# Altium footprint library moduls.PcbLib: 7 footprints
Each footprint in its own frame and in the unit in brackets; x right, y up, seen from the top. Pads: shape width x height; smd on the part's side, far side on the other; paste and mask are expansions set on the pad; w line width, h text height; cw(c..) or ccw(c..) is an arc to the next point about the centre after c.
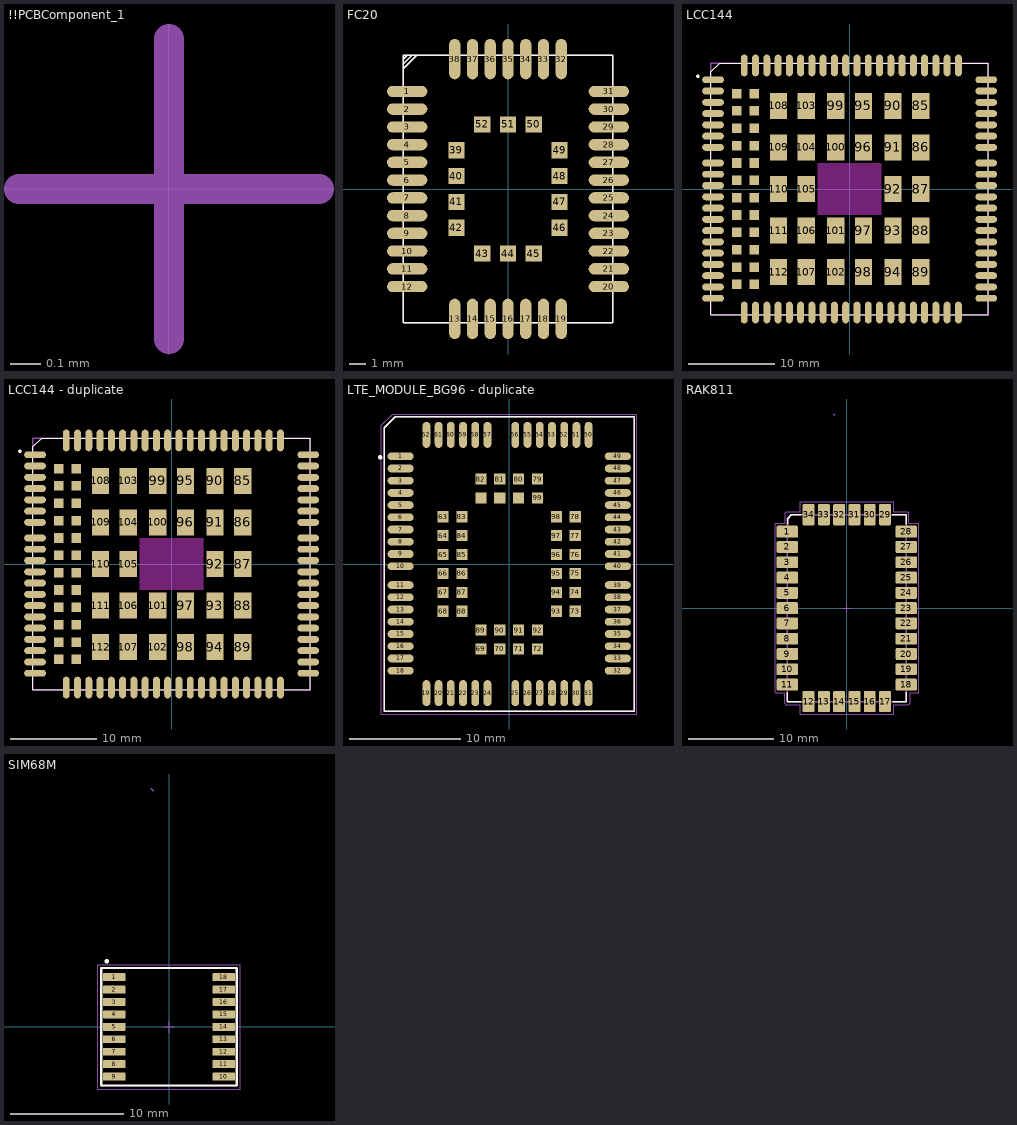
[diagram p0: the footprints below, top view; thin cyan lines are the x and y axes]

## !!PCBComponent_1 [mm]
M3_comm_top:
  text ".comment" at -0.9,-0.3 h1
M5_asm_top:
  text ".Designator" at -1,1.3 h1
M7_courtyard_top:
  lines w0.1: -0.5,0 0.5,0 ; 0,-0.5 0,0.5

## FC20 [mm]
pads (52):
  oval 2.5x0.7 smd: 1(-6.25,6.05) 2(-6.25,4.95) 3(-6.25,3.85) 4(-6.25,2.75) 5(-6.25,1.65) 6(-6.25,0.55) 7(-6.25,-0.55) 8(-6.25,-1.65) 9(-6.25,-2.75) 10(-6.25,-3.85) 11(-6.25,-4.95) 12(-6.25,-6.05) 20(6.25,-6.05) 21(6.25,-4.95) 22(6.25,-3.85) 23(6.25,-2.75) 24(6.25,-1.65) 25(6.25,-0.55) 26(6.25,0.55) 27(6.25,1.65) 28(6.25,2.75) 29(6.25,3.85) 30(6.25,4.95) 31(6.25,6.05)
  oval 0.7x2.5 smd: 13(-3.3,-8.05) 14(-2.2,-8.05) 15(-1.1,-8.05) 16(0,-8.05) 17(1.1,-8.05) 18(2.2,-8.05) 19(3.3,-8.05) 32(3.3,8.05) 33(2.2,8.05) 34(1.1,8.05) 35(0,8.05) 36(-1.1,8.05) 37(-2.2,8.05) 38(-3.3,8.05)
  rect 1x1 smd: 39(-3.2,2.4) 40(-3.2,0.8) 41(-3.2,-0.8) 42(-3.2,-2.4) 43(-1.6,-4) 44(0,-4) 45(1.6,-4) 46(3.2,-2.4) 47(3.2,-0.8) 48(3.2,0.8) 49(3.2,2.4) 50(1.6,4) 51(0,4) 52(-1.6,4)
Top Overlay:
  lines w0.1: -6.5,-8.3 6.5,-8.3 6.5,8.3 -6.5,8.3 -6.5,-8.3
  lines w0.102: -6.5,7.45 -5.65,8.3 ; -6.5,7.75 -5.95,8.3 ; -6.5,8.05 -6.25,8.3
M1_3D_TOP:
  lines w0.1: -6.5,-8.3 -6.5,8.3 6.5,8.3 6.5,-8.3 -6.5,-8.3
3D body: height 0.6, standoff 0, extent -6.5,-8.3 6.5,8.3
3D body: height 2.1, standoff 0.6, extent -5.5,-7.25 5.5,7.25

## LCC144 [mm] "EC21-E"
height 2.4
pads (132):
  oval 2.5x0.8 smd: 1(-15.75,12.6) 2(-15.75,11.3) 3(-15.75,10) 4(-15.75,8.7) 5(-15.75,7.4) 6(-15.75,6.1) 7(-15.75,4.8) 8(-15.75,0.4) 9(-15.75,-0.9) 10(-15.75,-2.2) 11(-15.75,-3.5) 12(-15.75,-4.8) 13(-15.75,-6.1) 14(-15.75,-7.4) 15(-15.75,-8.7) 16(-15.75,-10) 17(-15.75,-11.3) 18(-15.75,-12.6) 37(15.75,-12.6) 38(15.75,-11.3) 39(15.75,-10) 40(15.75,-8.7) 41(15.75,-7.4) 42(15.75,-6.1) 43(15.75,-4.8) 44(15.75,-3.5) 45(15.75,-2.2) 46(15.75,-0.9) 47(15.75,0.4) 48(15.75,4.8) 49(15.75,6.1) 50(15.75,7.4) 51(15.75,8.7) 52(15.75,10) 53(15.75,11.3) 54(15.75,12.6) 141(-15.75,3) 142(-15.75,1.7) 143(15.75,1.7) 144(15.75,3)
  oval 0.8x2.5 smd: 19(-9.55,-14.25) 20(-8.25,-14.25) 21(-6.95,-14.25) 22(-5.65,-14.25) 23(-4.35,-14.25) 24(-3.05,-14.25) 25(-1.75,-14.25) 26(-0.45,-14.25) 27(0.85,-14.25) 28(2.15,-14.25) 29(3.45,-14.25) 30(4.75,-14.25) 31(6.05,-14.25) 32(7.35,-14.25) 33(8.65,-14.25) 34(9.95,-14.25) 35(11.25,-14.25) 36(12.55,-14.25) 55(12.55,14.25) 56(11.25,14.25) 57(9.95,14.25) 58(8.65,14.25) 59(7.35,14.25) 60(6.05,14.25) 61(4.75,14.25) 62(3.45,14.25) 63(2.15,14.25) 64(0.85,14.25) 65(-0.45,14.25) 66(-1.75,14.25) 67(-3.05,14.25) 68(-4.35,14.25) 69(-5.65,14.25) 70(-6.95,14.25) 71(-8.25,14.25) 72(-9.55,14.25) 73(-10.85,14.25) 74(-12.15,14.25) 115(-10.85,-14.25) 116(-12.15,-14.25)
  rect 2x3 smd: 85(8.2,9.6) 86(8.2,4.8) 87(8.2,0) 88(8.2,-4.8) 89(8.2,-9.6) 90(5,9.6) 91(5,4.8) 92(5,0) 93(5,-4.8) 94(5,-9.6) 95(1.6,9.6) 96(1.6,4.8) 97(1.6,-4.8) 98(1.6,-9.6) 99(-1.6,9.6) 100(-1.6,4.8) 101(-1.6,-4.8) 102(-1.6,-9.6) 103(-5,9.6) 104(-5,4.8) 105(-5,0) 106(-5,-4.8) 107(-5,-9.6) 108(-8.2,9.6) 109(-8.2,4.8) 110(-8.2,0) 111(-8.2,-4.8) 112(-8.2,-9.6)
  rect 1.1x1.1 smd: 117(-11,11) 118(-11,9) 119(-11,7) 120(-11,5) 121(-11,3) 122(-11,1) 123(-11,-1) 124(-11,-3) 125(-11,-5) 126(-11,-7) 127(-11,-9) 128(-11,-11) 129(-13,11) 130(-13,9) 131(-13,7) 132(-13,5) 133(-13,3) 134(-13,1) 135(-13,-1) 136(-13,-3) 137(-13,-5) 138(-13,-7) 139(-13,-9) 140(-13,-11)
Top Layer keep-out:
  rectangle: -3.7,-3 3.7,3
Top Overlay:
  circle w0.2: c-17.5,13 r0.1
  lines w0.127: -16,-14.5 16,-14.5 16,14.5 -15,14.5 -16,13.5 -16,-14.5
M1_3D_TOP:
  lines w0.15: -16,-14.5 16,-14.5 16,14.5 -16,14.5 -16,-14.5
3D body: height 0.85, standoff 0, extent 12.35,14.4 12.75,14.6
3D body: height 0.85, standoff 0, extent 11.05,14.4 11.45,14.6
3D body: height 0.85, standoff 0, extent 8.45,14.4 8.85,14.6
3D body: height 0.85, standoff 0, extent 9.75,14.4 10.15,14.6
3D body: height 0.85, standoff 0, extent 4.55,14.4 4.95,14.6
3D body: height 0.85, standoff 0, extent 3.25,14.4 3.65,14.6
3D body: height 0.85, standoff 0, extent 5.85,14.4 6.25,14.6
3D body: height 0.85, standoff 0, extent 7.15,14.4 7.55,14.6
3D body: height 0.85, standoff 0, extent -0.65,14.4 -0.25,14.6
3D body: height 0.85, standoff 0, extent -1.95,14.4 -1.55,14.6
3D body: height 0.85, standoff 0, extent 0.65,14.4 1.05,14.6
3D body: height 0.85, standoff 0, extent 1.95,14.4 2.35,14.6
3D body: height 0.85, standoff 0, extent -5.85,14.4 -5.45,14.6
3D body: height 0.85, standoff 0, extent -7.15,14.4 -6.75,14.6
3D body: height 0.85, standoff 0, extent -4.55,14.4 -4.15,14.6
3D body: height 0.85, standoff 0, extent -3.25,14.4 -2.85,14.6
3D body: height 0.85, standoff 0, extent -11.05,14.4 -10.65,14.6
3D body: height 0.85, standoff 0, extent -12.35,14.4 -11.95,14.6
3D body: height 0.85, standoff 0, extent -9.75,14.4 -9.35,14.6
3D body: height 0.85, standoff 0, extent -8.45,14.4 -8.05,14.6
3D body: height 0.85, standoff 0, extent -8.45,-14.6 -8.05,-14.4
3D body: height 0.85, standoff 0, extent -9.75,-14.6 -9.35,-14.4
3D body: height 0.85, standoff 0, extent -12.35,-14.6 -11.95,-14.4
3D body: height 0.85, standoff 0, extent -11.05,-14.6 -10.65,-14.4
3D body: height 0.85, standoff 0, extent -3.25,-14.6 -2.85,-14.4
3D body: height 0.85, standoff 0, extent -4.55,-14.6 -4.15,-14.4
3D body: height 0.85, standoff 0, extent -7.15,-14.6 -6.75,-14.4
3D body: height 0.85, standoff 0, extent -5.85,-14.6 -5.45,-14.4
3D body: height 0.85, standoff 0, extent 1.95,-14.6 2.35,-14.4
3D body: height 0.85, standoff 0, extent 0.65,-14.6 1.05,-14.4
3D body: height 0.85, standoff 0, extent -1.95,-14.6 -1.55,-14.4
3D body: height 0.85, standoff 0, extent -0.65,-14.6 -0.25,-14.4
3D body: height 0.85, standoff 0, extent 7.15,-14.6 7.55,-14.4
3D body: height 0.85, standoff 0, extent 5.85,-14.6 6.25,-14.4
3D body: height 0.85, standoff 0, extent 3.25,-14.6 3.65,-14.4
3D body: height 0.85, standoff 0, extent 4.55,-14.6 4.95,-14.4
3D body: height 0.85, standoff 0, extent 9.75,-14.6 10.15,-14.4
3D body: height 0.85, standoff 0, extent 8.45,-14.6 8.85,-14.4
3D body: height 0.85, standoff 0, extent 11.05,-14.6 11.45,-14.4
3D body: height 0.85, standoff 0, extent 12.35,-14.6 12.75,-14.4
3D body: height 0.85, standoff 0, extent -16.1,-3.7 -15.9,-3.3
3D body: height 0.85, standoff 0, extent -16.1,-5 -15.9,-4.6
3D body: height 0.85, standoff 0, extent -16.1,-7.6 -15.9,-7.2
3D body: height 0.85, standoff 0, extent -16.1,-6.3 -15.9,-5.9
3D body: height 0.85, standoff 0, extent -16.1,-10.2 -15.9,-9.8
3D body: height 0.85, standoff 0, extent -16.1,-8.9 -15.9,-8.5
3D body: height 0.85, standoff 0, extent -16.1,-12.8 -15.9,-12.4
3D body: height 0.85, standoff 0, extent -16.1,-11.5 -15.9,-11.1
3D body: height 0.85, standoff 0, extent -16.1,-2.4 -15.9,-2
3D body: height 0.85, standoff 0, extent -16.1,-1.1 -15.9,-0.7
3D body: height 0.85, standoff 0, extent -16.1,0.2 -15.9,0.6
3D body: height 0.85, standoff 0, extent -16.1,1.5 -15.9,1.9
3D body: height 0.85, standoff 0, extent -16.1,4.6 -15.9,5
3D body: height 0.85, standoff 0, extent -16.1,5.9 -15.9,6.3
3D body: height 0.85, standoff 0, extent -16.1,7.2 -15.9,7.6
3D body: height 0.85, standoff 0, extent -16.1,8.5 -15.9,8.9
3D body: height 0.85, standoff 0, extent -16.1,9.8 -15.9,10.2
3D body: height 0.85, standoff 0, extent -16.1,11.1 -15.9,11.5
3D body: height 0.85, standoff 0, extent -16.1,12.4 -15.9,12.8
3D body: height 0.85, standoff 0, extent -16.1,2.8 -15.9,3.2
3D body: height 0.85, standoff 0, extent 15.9,2.8 16.1,3.2
3D body: height 0.85, standoff 0, extent 15.9,12.4 16.1,12.8
3D body: height 0.85, standoff 0, extent 15.9,11.1 16.1,11.5
3D body: height 0.85, standoff 0, extent 15.9,9.8 16.1,10.2
3D body: height 0.85, standoff 0, extent 15.9,8.5 16.1,8.9
3D body: height 0.85, standoff 0, extent 15.9,7.2 16.1,7.6
3D body: height 0.85, standoff 0, extent 15.9,5.9 16.1,6.3
3D body: height 0.85, standoff 0, extent 15.9,4.6 16.1,5
3D body: height 0.85, standoff 0, extent 15.9,1.5 16.1,1.9
3D body: height 0.85, standoff 0, extent 15.9,0.2 16.1,0.6
3D body: height 0.85, standoff 0, extent 15.9,-1.1 16.1,-0.7
3D body: height 0.85, standoff 0, extent 15.9,-2.4 16.1,-2
3D body: height 0.85, standoff 0, extent 15.9,-11.5 16.1,-11.1
3D body: height 0.85, standoff 0, extent 15.9,-12.8 16.1,-12.4
3D body: height 0.85, standoff 0, extent 15.9,-8.9 16.1,-8.5
3D body: height 0.85, standoff 0, extent 15.9,-10.2 16.1,-9.8
3D body: height 0.85, standoff 0, extent 15.9,-6.3 16.1,-5.9
3D body: height 0.85, standoff 0, extent 15.9,-7.6 16.1,-7.2
3D body: height 0.85, standoff 0, extent 15.9,-5 16.1,-4.6
3D body: height 0.85, standoff 0, extent 15.9,-3.7 16.1,-3.3
3D body: height 2.4, standoff 0.8, extent -15.5,-14 15.5,14
3D body: height 0.8, standoff 0, extent -16,-14.5 16,14.5
3D body: height 2.41, standoff 2.4, extent -14.996,12.501 -14,13.499

## LCC144 - duplicate [mm] "EC21-E"
height 2.4
pads (132):
  oval 2.5x0.8 smd: 1(-15.75,12.6) 2(-15.75,11.3) 3(-15.75,10) 4(-15.75,8.7) 5(-15.75,7.4) 6(-15.75,6.1) 7(-15.75,4.8) 8(-15.75,0.4) 9(-15.75,-0.9) 10(-15.75,-2.2) 11(-15.75,-3.5) 12(-15.75,-4.8) 13(-15.75,-6.1) 14(-15.75,-7.4) 15(-15.75,-8.7) 16(-15.75,-10) 17(-15.75,-11.3) 18(-15.75,-12.6) 37(15.75,-12.6) 38(15.75,-11.3) 39(15.75,-10) 40(15.75,-8.7) 41(15.75,-7.4) 42(15.75,-6.1) 43(15.75,-4.8) 44(15.75,-3.5) 45(15.75,-2.2) 46(15.75,-0.9) 47(15.75,0.4) 48(15.75,4.8) 49(15.75,6.1) 50(15.75,7.4) 51(15.75,8.7) 52(15.75,10) 53(15.75,11.3) 54(15.75,12.6) 141(-15.75,3) 142(-15.75,1.7) 143(15.75,1.7) 144(15.75,3)
  oval 0.8x2.5 smd: 19(-9.55,-14.25) 20(-8.25,-14.25) 21(-6.95,-14.25) 22(-5.65,-14.25) 23(-4.35,-14.25) 24(-3.05,-14.25) 25(-1.75,-14.25) 26(-0.45,-14.25) 27(0.85,-14.25) 28(2.15,-14.25) 29(3.45,-14.25) 30(4.75,-14.25) 31(6.05,-14.25) 32(7.35,-14.25) 33(8.65,-14.25) 34(9.95,-14.25) 35(11.25,-14.25) 36(12.55,-14.25) 55(12.55,14.25) 56(11.25,14.25) 57(9.95,14.25) 58(8.65,14.25) 59(7.35,14.25) 60(6.05,14.25) 61(4.75,14.25) 62(3.45,14.25) 63(2.15,14.25) 64(0.85,14.25) 65(-0.45,14.25) 66(-1.75,14.25) 67(-3.05,14.25) 68(-4.35,14.25) 69(-5.65,14.25) 70(-6.95,14.25) 71(-8.25,14.25) 72(-9.55,14.25) 73(-10.85,14.25) 74(-12.15,14.25) 115(-10.85,-14.25) 116(-12.15,-14.25)
  rect 2x3 smd: 85(8.2,9.6) 86(8.2,4.8) 87(8.2,0) 88(8.2,-4.8) 89(8.2,-9.6) 90(5,9.6) 91(5,4.8) 92(5,0) 93(5,-4.8) 94(5,-9.6) 95(1.6,9.6) 96(1.6,4.8) 97(1.6,-4.8) 98(1.6,-9.6) 99(-1.6,9.6) 100(-1.6,4.8) 101(-1.6,-4.8) 102(-1.6,-9.6) 103(-5,9.6) 104(-5,4.8) 105(-5,0) 106(-5,-4.8) 107(-5,-9.6) 108(-8.2,9.6) 109(-8.2,4.8) 110(-8.2,0) 111(-8.2,-4.8) 112(-8.2,-9.6)
  rect 1.1x1.1 smd: 117(-11,11) 118(-11,9) 119(-11,7) 120(-11,5) 121(-11,3) 122(-11,1) 123(-11,-1) 124(-11,-3) 125(-11,-5) 126(-11,-7) 127(-11,-9) 129(-13,11) 129(-11,-11) 130(-13,9) 131(-13,7) 132(-13,5) 133(-13,3) 134(-13,1) 135(-13,-1) 136(-13,-3) 137(-13,-5) 138(-13,-7) 139(-13,-9) 140(-13,-11)
Top Layer keep-out:
  rectangle: -3.7,-3 3.7,3
Top Overlay:
  circle w0.2: c-17.5,13 r0.1
  lines w0.127: -16,-14.5 -16,13.5 -15,14.5 16,14.5 16,-14.5 -16,-14.5
M1_3D_TOP:
  lines w0.15: -16,-14.5 -16,14.5 16,14.5 16,-14.5 -16,-14.5
3D body: height 2.41, standoff 2.4, extent -14.996,12.501 -14,13.499
3D body: height 0.8, standoff 0, extent -16,-14.5 16,14.5
3D body: height 2.4, standoff 0.8, extent -15.5,-14 15.5,14
3D body: height 0.85, standoff 0, extent 15.9,-3.7 16.1,-3.3
3D body: height 0.85, standoff 0, extent 15.9,-5 16.1,-4.6
3D body: height 0.85, standoff 0, extent 15.9,-7.6 16.1,-7.2
3D body: height 0.85, standoff 0, extent 15.9,-6.3 16.1,-5.9
3D body: height 0.85, standoff 0, extent 15.9,-10.2 16.1,-9.8
3D body: height 0.85, standoff 0, extent 15.9,-8.9 16.1,-8.5
3D body: height 0.85, standoff 0, extent 15.9,-12.8 16.1,-12.4
3D body: height 0.85, standoff 0, extent 15.9,-11.5 16.1,-11.1
3D body: height 0.85, standoff 0, extent 15.9,-2.4 16.1,-2
3D body: height 0.85, standoff 0, extent 15.9,-1.1 16.1,-0.7
3D body: height 0.85, standoff 0, extent 15.9,0.2 16.1,0.6
3D body: height 0.85, standoff 0, extent 15.9,1.5 16.1,1.9
3D body: height 0.85, standoff 0, extent 15.9,4.6 16.1,5
3D body: height 0.85, standoff 0, extent 15.9,5.9 16.1,6.3
3D body: height 0.85, standoff 0, extent 15.9,7.2 16.1,7.6
3D body: height 0.85, standoff 0, extent 15.9,8.5 16.1,8.9
3D body: height 0.85, standoff 0, extent 15.9,9.8 16.1,10.2
3D body: height 0.85, standoff 0, extent 15.9,11.1 16.1,11.5
3D body: height 0.85, standoff 0, extent 15.9,12.4 16.1,12.8
3D body: height 0.85, standoff 0, extent 15.9,2.8 16.1,3.2
3D body: height 0.85, standoff 0, extent -16.1,2.8 -15.9,3.2
3D body: height 0.85, standoff 0, extent -16.1,12.4 -15.9,12.8
3D body: height 0.85, standoff 0, extent -16.1,11.1 -15.9,11.5
3D body: height 0.85, standoff 0, extent -16.1,9.8 -15.9,10.2
3D body: height 0.85, standoff 0, extent -16.1,8.5 -15.9,8.9
3D body: height 0.85, standoff 0, extent -16.1,7.2 -15.9,7.6
3D body: height 0.85, standoff 0, extent -16.1,5.9 -15.9,6.3
3D body: height 0.85, standoff 0, extent -16.1,4.6 -15.9,5
3D body: height 0.85, standoff 0, extent -16.1,1.5 -15.9,1.9
3D body: height 0.85, standoff 0, extent -16.1,0.2 -15.9,0.6
3D body: height 0.85, standoff 0, extent -16.1,-1.1 -15.9,-0.7
3D body: height 0.85, standoff 0, extent -16.1,-2.4 -15.9,-2
3D body: height 0.85, standoff 0, extent -16.1,-11.5 -15.9,-11.1
3D body: height 0.85, standoff 0, extent -16.1,-12.8 -15.9,-12.4
3D body: height 0.85, standoff 0, extent -16.1,-8.9 -15.9,-8.5
3D body: height 0.85, standoff 0, extent -16.1,-10.2 -15.9,-9.8
3D body: height 0.85, standoff 0, extent -16.1,-6.3 -15.9,-5.9
3D body: height 0.85, standoff 0, extent -16.1,-7.6 -15.9,-7.2
3D body: height 0.85, standoff 0, extent -16.1,-5 -15.9,-4.6
3D body: height 0.85, standoff 0, extent -16.1,-3.7 -15.9,-3.3
3D body: height 0.85, standoff 0, extent 12.35,-14.6 12.75,-14.4
3D body: height 0.85, standoff 0, extent 11.05,-14.6 11.45,-14.4
3D body: height 0.85, standoff 0, extent 8.45,-14.6 8.85,-14.4
3D body: height 0.85, standoff 0, extent 9.75,-14.6 10.15,-14.4
3D body: height 0.85, standoff 0, extent 4.55,-14.6 4.95,-14.4
3D body: height 0.85, standoff 0, extent 3.25,-14.6 3.65,-14.4
3D body: height 0.85, standoff 0, extent 5.85,-14.6 6.25,-14.4
3D body: height 0.85, standoff 0, extent 7.15,-14.6 7.55,-14.4
3D body: height 0.85, standoff 0, extent -0.65,-14.6 -0.25,-14.4
3D body: height 0.85, standoff 0, extent -1.95,-14.6 -1.55,-14.4
3D body: height 0.85, standoff 0, extent 0.65,-14.6 1.05,-14.4
3D body: height 0.85, standoff 0, extent 1.95,-14.6 2.35,-14.4
3D body: height 0.85, standoff 0, extent -5.85,-14.6 -5.45,-14.4
3D body: height 0.85, standoff 0, extent -7.15,-14.6 -6.75,-14.4
3D body: height 0.85, standoff 0, extent -4.55,-14.6 -4.15,-14.4
3D body: height 0.85, standoff 0, extent -3.25,-14.6 -2.85,-14.4
3D body: height 0.85, standoff 0, extent -11.05,-14.6 -10.65,-14.4
3D body: height 0.85, standoff 0, extent -12.35,-14.6 -11.95,-14.4
3D body: height 0.85, standoff 0, extent -9.75,-14.6 -9.35,-14.4
3D body: height 0.85, standoff 0, extent -8.45,-14.6 -8.05,-14.4
3D body: height 0.85, standoff 0, extent -8.45,14.4 -8.05,14.6
3D body: height 0.85, standoff 0, extent -9.75,14.4 -9.35,14.6
3D body: height 0.85, standoff 0, extent -12.35,14.4 -11.95,14.6
3D body: height 0.85, standoff 0, extent -11.05,14.4 -10.65,14.6
3D body: height 0.85, standoff 0, extent -3.25,14.4 -2.85,14.6
3D body: height 0.85, standoff 0, extent -4.55,14.4 -4.15,14.6
3D body: height 0.85, standoff 0, extent -7.15,14.4 -6.75,14.6
3D body: height 0.85, standoff 0, extent -5.85,14.4 -5.45,14.6
3D body: height 0.85, standoff 0, extent 1.95,14.4 2.35,14.6
3D body: height 0.85, standoff 0, extent 0.65,14.4 1.05,14.6
3D body: height 0.85, standoff 0, extent -1.95,14.4 -1.55,14.6
3D body: height 0.85, standoff 0, extent -0.65,14.4 -0.25,14.6
3D body: height 0.85, standoff 0, extent 7.15,14.4 7.55,14.6
3D body: height 0.85, standoff 0, extent 5.85,14.4 6.25,14.6
3D body: height 0.85, standoff 0, extent 3.25,14.4 3.65,14.6
3D body: height 0.85, standoff 0, extent 4.55,14.4 4.95,14.6
3D body: height 0.85, standoff 0, extent 9.75,14.4 10.15,14.6
3D body: height 0.85, standoff 0, extent 8.45,14.4 8.85,14.6
3D body: height 0.85, standoff 0, extent 11.05,14.4 11.45,14.6
3D body: height 0.85, standoff 0, extent 12.35,14.4 12.75,14.6

## LTE_MODULE_BG96 - duplicate [mm]
pads (102):
  oval 2.35x0.7 smd: 1(-9.775,9.7) 2(-9.775,8.6) 3(-9.775,7.5) 4(-9.775,6.4) 5(-9.775,5.3) 6(-9.775,4.2) 7(-9.775,3.1) 8(-9.775,2) 9(-9.775,0.9) 10(-9.775,-0.2) 11(-9.775,-1.9) 12(-9.775,-3) 13(-9.775,-4.1) 14(-9.775,-5.2) 15(-9.775,-6.3) 16(-9.775,-7.4) 17(-9.775,-8.5) 18(-9.775,-9.6) 32(9.775,-9.6) 33(9.775,-8.5) 34(9.775,-7.4) 35(9.775,-6.3) 36(9.775,-5.2) 37(9.775,-4.1) 38(9.775,-3) 39(9.775,-1.9) 40(9.775,-0.2) 41(9.775,0.9) 42(9.775,2) 43(9.775,3.1) 44(9.775,4.2) 45(9.775,5.3) 46(9.775,6.4) 47(9.775,7.5) 48(9.775,8.6) 49(9.775,9.7)
  oval 0.7x2.35 smd: 19(-7.45,-11.625) 20(-6.35,-11.625) 21(-5.25,-11.625) 22(-4.15,-11.625) 23(-3.05,-11.625) 24(-1.95,-11.625) 25(0.55,-11.625) 26(1.65,-11.625) 27(2.75,-11.625) 28(3.85,-11.625) 29(4.95,-11.625) 30(6.05,-11.625) 31(7.15,-11.625) 50(7.15,11.625) 51(6.05,11.625) 52(4.95,11.625) 53(3.85,11.625) 54(2.75,11.625) 55(1.65,11.625) 56(0.55,11.625) 57(-1.95,11.625) 58(-3.05,11.625) 59(-4.15,11.625) 60(-5.25,11.625) 61(-6.35,11.625) 62(-7.45,11.625)
  rect 1x1 smd: 63(-5.95,4.25) 64(-5.95,2.55) 65(-5.95,0.85) 66(-5.95,-0.85) 67(-5.95,-2.55) 68(-5.95,-4.25) 69(-2.55,-7.65) 70(-0.85,-7.65) 71(0.85,-7.65) 72(2.55,-7.65) 73(5.95,-4.25) 74(5.95,-2.55) 75(5.95,-0.85) 76(5.95,0.85) 77(5.95,2.55) 78(5.95,4.25) 79(2.55,7.65) 80(0.85,7.65) 81(-0.85,7.65) 82(-2.55,7.65) 83(-4.25,4.25) 84(-4.25,2.55) 85(-4.25,0.85) 86(-4.25,-0.85) 87(-4.25,-2.55) 88(-4.25,-4.25) 89(-2.55,-5.95) 90(-0.85,-5.95) 91(0.85,-5.95) 92(2.55,-5.95) 93(4.25,-4.25) 94(4.25,-2.55) 95(4.25,-0.85) 96(4.25,0.85) 97(4.25,2.55) 98(4.25,4.25) 99(2.55,5.95) 100(0.85,5.95) 101(-0.85,5.95) 102(-2.55,5.95)
Top Overlay:
  circle w0.2: c-11.611,9.6 r0.1
  lines w0.127: -11.25,-13.25 -11.25,12.25 -10.25,13.25 11.25,13.25 11.25,-13.25 -11.25,-13.25
M1_3D_TOP:
  lines w0.05: -11.5,-13.5 -11.5,12.5 -10.5,13.5 11.5,13.5 11.5,-13.5 -11.5,-13.5
  lines w0.127: -11.25,-13.25 -11.25,12.25 -10.25,13.25 11.25,13.25 11.25,-13.25 -11.25,-13.25

## RAK811 [mm]
pads (34):
  rrect20% 2.5x1.4 smd: 1(-7,9) 2(-7,7.2) 3(-7,5.4) 4(-7,3.6) 5(-7,1.8) 6(-7,0) 7(-7,-1.8) 8(-7,-3.6) 9(-7,-5.4) 10(-7,-7.2) 11(-7,-9) 18(7,-9) 19(7,-7.2) 20(7,-5.4) 21(7,-3.6) 22(7,-1.8) 23(7,0) 24(7,1.8) 25(7,3.6) 26(7,5.4) 27(7,7.2) 28(7,9)
  rrect20% 1.4x2.5 smd: 12(-4.5,-11) 13(-2.7,-11) 14(-0.9,-11) 15(0.9,-11) 16(2.7,-11) 17(4.5,-11) 29(4.5,11) 30(2.7,11) 31(0.9,11) 32(-0.9,11) 33(-2.7,11) 34(-4.5,11)
Top Overlay:
  lines w0.15: -7,-9.889 -7,-11 -5.37,-11 ; -6.97,9.88 -6.97,10.54 -6.51,11 -5.38,11 ; 5.38,10.999 7,10.999 7,9.88 ; 5.4,-11 7,-11 7,-9.889
M3_comm_top:
  text ".comment" at -0.9,-0.3 h1
M5_asm_top:
  lines w0.15: -7,-11 -7,10.51 -6.51,11 -5.38,11 7,10.999 7,-9.889 7,-11 -5.37,-11 -7,-11
  text "11" at -5.7,-9.4 h1
  text "12" at -4.8,-10.6 h1
  text "17" at 4.2,-10.6 h1
  text "18" at 5,-9.4 h1
  text "28" at 5,8.6 h1
  text ".Designator" at -1,1.3 h1
  text "29" at 4.2,9.9 h1
  text "34" at -4.7,9.9 h1
  text "1" at -5.7,8.6 h1
M7_courtyard_top:
  lines w0.1: -0.5,0 0.5,0 ; 0,-0.5 0,0.5 ; -8.45,-9.948 -7.324,-9.948 -7.324,-11.226 -7.176,-11.374 -5.45,-11.374 -5.45,-12.463 5.5,-12.463 5.5,-11.374 6.023,-11.374 7.3,-11.374 7.449,-11.226 7.449,-9.948 8.5,-9.948 8.5,10 7.3,10 7.3,11.206 7.151,11.354 5.5,11.354 5.5,12.5 -5.45,12.5 -5.45,11.354 -7.101,11.354 -7.25,11.206 -7.25,10 -8.45,10 -8.45,-9.948
  lines w0.15: -1.549,22.854 -1.4,22.706
3D body "LORA MODE.STEP": height 1.75, standoff 0.05, extent -7,-11 7,11

## SIM68M [mm]
pads (18):
  rrect20% 2x0.7 smd: 1(-4.85,4.4) 2(-4.85,3.3) 3(-4.85,2.2) 4(-4.85,1.1) 5(-4.85,0) 6(-4.85,-1.1) 7(-4.85,-2.2) 8(-4.85,-3.3) 9(-4.85,-4.4) 10(4.85,-4.4) 11(4.85,-3.3) 12(4.85,-2.2) 13(4.85,-1.1) 14(4.85,0) 15(4.85,1.1) 16(4.85,2.2) 17(4.85,3.3) 18(4.85,4.4)
Top Overlay:
  circle w0.2: c-5.5,5.8 r0.1
  lines w0.2: -6,-5.2 6,-5.2 6,5.2 -6,5.2 -6,-5.2
M3_comm_top:
  text ".comment" at 0,0 h1
M5_asm_top:
  lines w0.1: -6,-5.2 -6,5.2 6,5.2 6,-5.2 -6,-5.2
  text ".Designator" at -1.3,5.4 h1
M7_courtyard_top:
  lines w0.1: -0.5,0 0.5,0 ; 0,-0.5 0,0.5 ; -6.3,-5.5 6.3,-5.5 6.3,5.5 -6.3,5.5 -6.3,-5.5
  lines w0.15: -1.548,21.055 -1.4,20.906
3D body "User Library-SIM68M.STEP": height 2.56, standoff -0.01, extent -4.86,-5.05 4.86,5.05